# Altium integrated library Capacitor.IntLib: 1 symbol
Pins are listed as number, name and electrical type; pins without a type are passive.

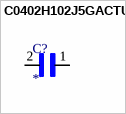
[diagram p0: symbol C0402H102J5GACTU]

## C0402H102J5GACTU
designator C?
CAPACITOR, NP0, 0402, 50V, 1NF; Capacitance:1000pF; Capacitance Tolerance:Â± 5%; Dielectric Characteristic:C0G / NP0; Voltage Rating:50V; Capacitor Case Style:0402; Operating Temperature Range:-55Â°C to +200Â°C; SVHC:No SVHC (19-Dec-2011); Capacitor Mounting:SMD; MP: C0402H102J5GACTU; Package: None; Price: None; Value: *; Availability: Unavailable
footprint CAPC1005X55N
pins: 1, 2